# Altium footprint library mp3.PcbLib: 1 footprints
Each footprint in its own frame and in the unit in brackets; x right, y up, seen from the top. Pads: shape width x height; smd on the part's side, far side on the other; paste and mask are expansions set on the pad; w line width, h text height; cw(c..) or ccw(c..) is an arc to the next point about the centre after c.
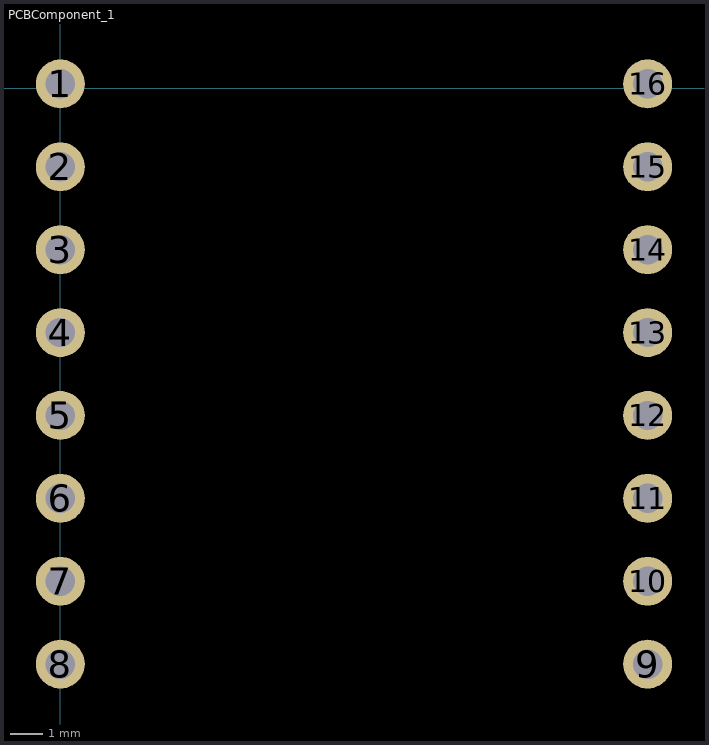
[diagram p0: the footprint, top view; thin cyan lines are the x and y axes]

## PCBComponent_1 [mm]
pads (16):
  round 1.5 hole 0.9: 1(0,0.127) 2(0,-2.413) 3(0,-4.953) 4(0,-7.493) 5(0,-10.033) 6(0,-12.573) 7(0,-15.113) 8(0,-17.653) 9(18,-17.653) 10(18,-15.113) 11(18,-12.573) 12(18,-10.033) 13(18,-7.493) 14(18,-4.953) 15(18,-2.413) 16(18,0.127)